# Altium footprint library UAVCAN_rooms-PcbLib.PcbLib: 1 footprints
Each footprint in its own frame and in the unit in brackets; x right, y up, seen from the top. Pads: shape width x height; smd on the part's side, far side on the other; paste and mask are expansions set on the pad; w line width, h text height; cw(c..) or ccw(c..) is an arc to the next point about the centre after c.
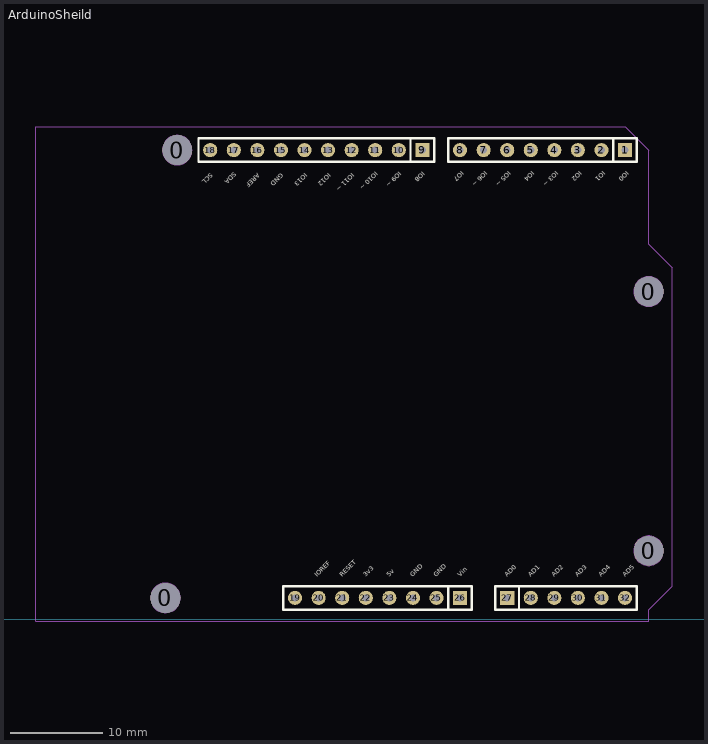
[diagram p0: the footprint, top view; thin cyan lines are the x and y axes]

## ArduinoSheild [mil]
pads (36):
  round 125.98 hole 125.98: 0(1250,90) 0(1300,1990) 0(3300,290) 0(3300,1390)
  rect 60x60 hole 30: 1(3200,1990) 9(2340,1990) 26(2500,90) 27(2700,90)
  round 60 hole 30: 2(3100,1990) 3(3000,1990) 4(2900,1990) 5(2800,1990) 6(2700,1990) 7(2600,1990) 8(2500,1990) 10(2240,1990) 11(2140,1990) 12(2040,1990) 13(1940,1990) 14(1840,1990) 15(1740,1990) 16(1640,1990) 17(1540,1990) 18(1440,1990) 19(1800,90) 20(1900,90) 21(2000,90) 22(2100,90) 23(2200,90) 24(2300,90) 25(2400,90) 28(2800,90) 29(2900,90) 30(3000,90) 31(3100,90) 32(3200,90)
Top Overlay:
  lines w10: 2450,40 2450,140 ; 3150,1940 3150,2040 ; 2290,1940 2390,1940 2390,2040 2290,2040 ; 2290,1940 2290,2040 ; 2290,1940 1390,1940 1390,2040 2290,2040 ; 2750,40 3250,40 3250,140 2750,140 ; 2750,40 2750,140 ; 2750,40 2650,40 2650,90 2650,140 2750,140 ; 1750,40 2550,40 2550,140 1750,140 1750,40 ; 2450,1940 3250,1940 3250,2040 2450,2040 2450,1940
  text "SCL" at 1440,1892.93 h20
  text "SDA" at 1540,1897.93 h20
  text "IOREF" at 1895,177.07 h20
  text "RESET" at 2000,177.07 h20
  text "3v3" at 2100,177.07 h20
  text "5v" at 2200,177.07 h20
  text "GND" at 2300,177.07 h20
  text "GND" at 2400,177.07 h20
  text "Vin" at 2500,177.07 h20
  text "AD0" at 2700,177.07 h20
  text "AD1" at 2800,177.07 h20
  text "AD2" at 2900,177.07 h20
  text "AD3" at 3000,177.07 h20
  text "AD4" at 3100,177.07 h20
  text "AD5" at 3200,177.07 h20
  text "IO0" at 3205,1902.93 h20
  text "IO1" at 3105,1902.93 h20
  text "IO2" at 3005,1902.93 h20
  text "IO3 ~" at 2905,1902.93 h20
  text "IO4" at 2805,1902.93 h20
  text "IO5 ~" at 2705,1902.93 h20
  text "IO6 ~" at 2605,1902.93 h20
  text "IO7" at 2505,1902.93 h20
  text "IO8" at 2340,1900 h20
  text "IO9 ~" at 2240,1900 h20
  text "IO10 ~" at 2140,1900 h20
  text "IO11 ~" at 2040,1892.93 h20
  text "IO12" at 1940,1892.93 h20
  text "IO13" at 1840,1892.93 h20
  text "GND" at 1740,1892.93 h20
  text "AREF" at 1640,1892.93 h20
Mechanical 1:
  circle w5: c1300,1990 r62.99
  circle w5: c3300,290 r62.99
  circle w5: c1250,90 r62.99
  circle w5: c3300,1390 r62.99
  lines w5: 700,-10 700,2090 3200,2090 3300,1990 3300,1590 3400,1490 3400,140 3300,40 3300,-10 700,-10
3D body "SIL_Socket08_.stp": height 334.65, standoff -584.65, extent 1750,39.99 2550,139.99
3D body "SIL_Socket08_.stp": height 334.65, standoff -584.65, extent 2450,1939.99 3250,2039.99
3D body "SIL_Socket10.stp": height 334.65, standoff -584.65, extent 1390,1940 2390,2040
3D body "SIL_Socket06.stp": height 334.65, standoff -584.65, extent 2650.01,40.01 3250.01,140.01